# Altium schematic symbol library integratedCircuits.SchLib: 15 symbols
Pins are listed as number, name and electrical type; pins without a type are passive.

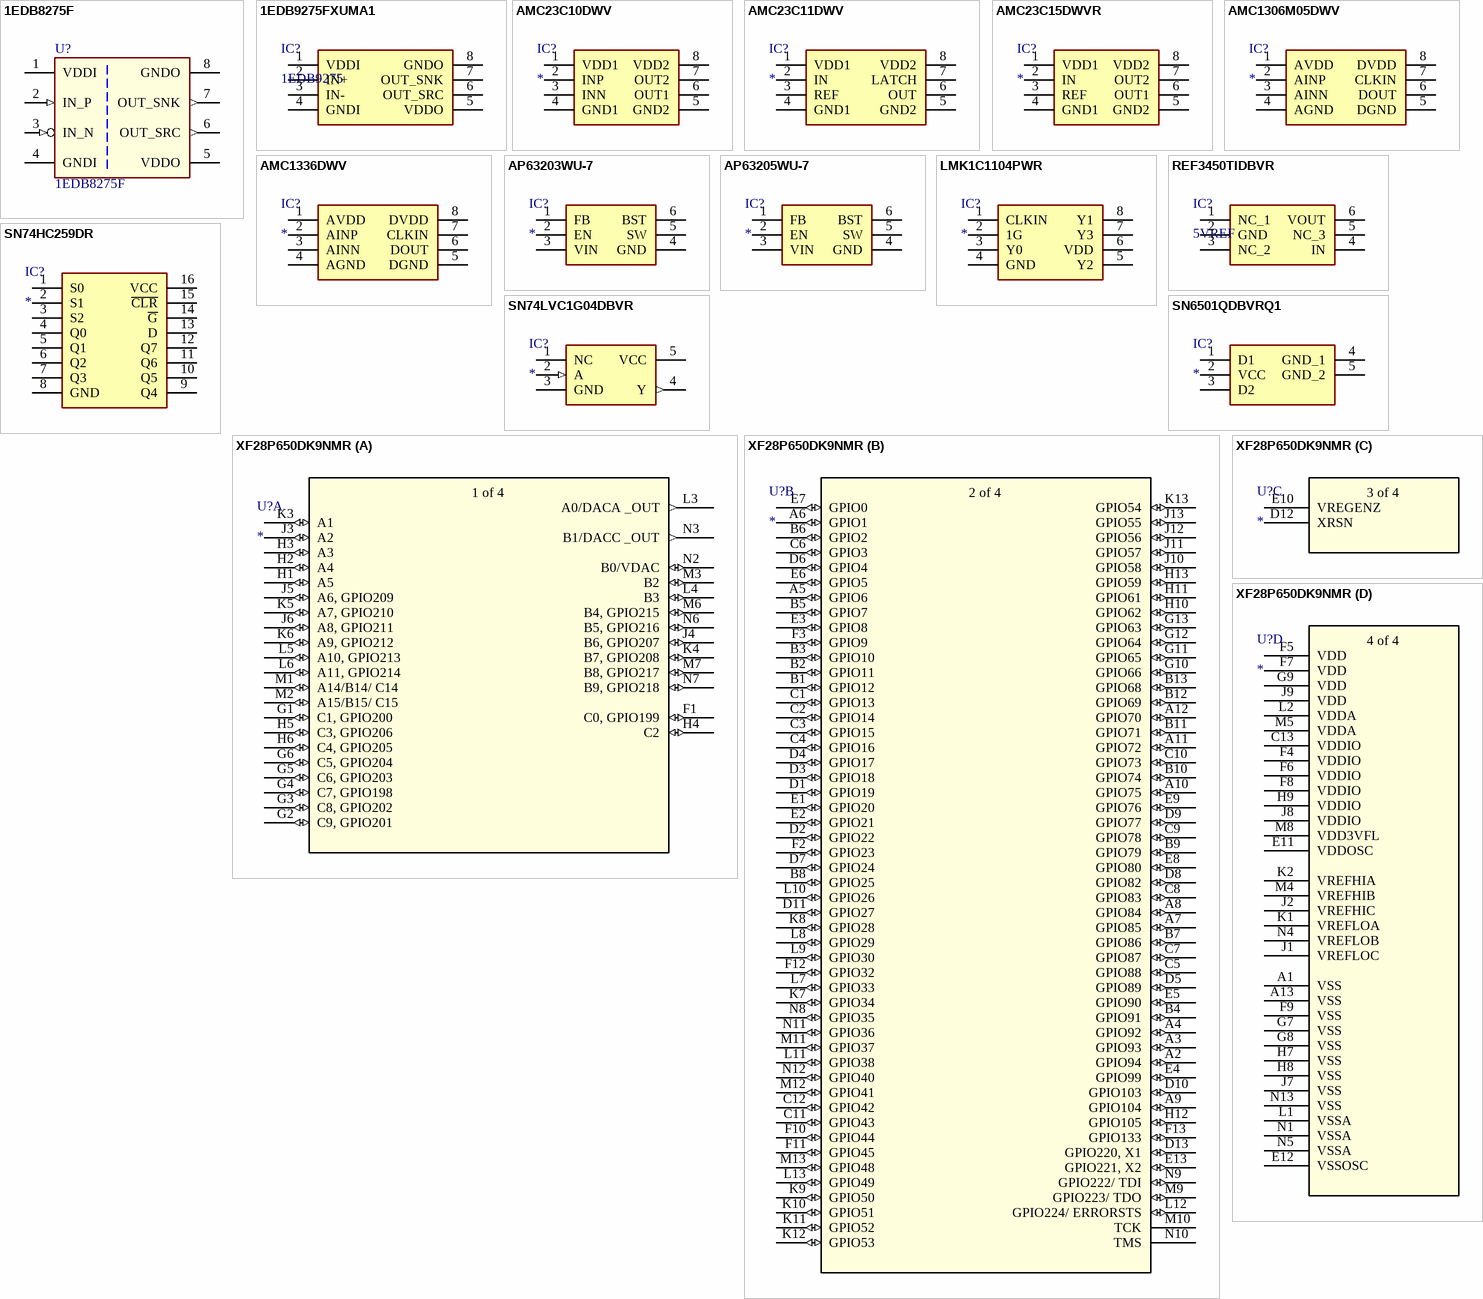
[diagram p0: symbols 1EDB8275F to XF28P650DK9NMR]

## 1EDB8275F
designator U?
Single-channel isolated gate-driver 8V UVLO High-Side; Symbol type: Single-channel isolated gate-driver; ComponentLink1Description: Datasheet; ComponentLink1URL: https://www.infineon.com/dgdl/Infineon-1EDB8275F-DataSheet-v02_02-EN.pdf?fileId=8ac78c8c7d0d8da4017d2c9fc1dd6c0b
footprint SOIC-8/127P600X175-8N-10 (SOIC,1.27mm pitch;8 pin,3.90mm W X 4.90mm L X 1.75mm H body)
pins: 1 VDDI (power) "Input-side supply voltage", 2 IN_P (in) "Non-inverting driver input", 3 IN_N (in) "Inverting driver input", 4 GNDI (power) "Input-side ground reference", 5 VDDO (power) "Output-side supply voltage", 6 OUT_SRC (out) "Driver output source", 7 OUT_SNK (out) "Driver output sink", 8 GNDO (power) "Output-side ground reference"

## 1EDB9275FXUMA1
designator IC?, comment 1EDB9275
Single-channel isolated gate-driver 15V UVLO High-Side; Manufacturer_Name: Infineon; Manufacturer_Part_Number: 1EDB9275FXUMA1; Datasheet Link: https://www.infineon.com/cms/en/product/power/gate-driver-ics/?; Height: 1.75mm; Mouser Part Number: 726-1EDB9275FXUMA1; Mouser Price/Stock: https://www.mouser.co.uk/ProductDetail/Infineon-Technologies/1EDB9275FXUMA1?qs=GBLSl2AkirvLL7yk%2Ft9JLQ%3D%3D; Arrow Part Number: 1EDB9275FXUMA1; Arrow Price/Stock: https://www.arrow.com/en/products/1edb9275fxuma1/infineon-technologies-ag?utm_currency=USD&region=nac
footprint SOIC127P600X175-8N
pins: 1 VDDI, 2 IN+, 3 IN-, 4 GNDI, 5 VDDO, 6 OUT_SRC, 7 OUT_SNK, 8 GNDO

## AMC23C10DWV
designator IC?
Fast-response, reinforced, isolated differential comparator with open-drain and push-pull outputs for ZCD; Manufacturer_Name: Texas Instruments; Manufacturer_Part_Number: AMC23C10DWV; Datasheet Link: https://www.ti.com/lit/ds/symlink/amc23c10.pdf?HQS=dis-mous-null-mousermode-dsf-pf-null-wwe&ts=1673274665261&ref_url=https%253A%252F%252Fwww.mouser.in%252F; Height: 2.8mm; Mouser Part Number: 595-AMC23C10DWV; Mouser Price/Stock: https://www.mouser.co.uk/ProductDetail/Texas-Instruments/AMC23C10DWV?qs=By6Nw2ByBD3PeP8lOrmzwA%3D%3D
footprint SOIC127P1150X280-8N
pins: 1 VDD1, 2 INP, 3 INN, 4 GND1, 5 GND2, 6 OUT1, 7 OUT2, 8 VDD2

## AMC23C11DWV
designator IC?
Fast-response, reinforced, isolated comparator with adjustable threshold and latch function for OVP; Manufacturer_Name: Texas Instruments; Manufacturer_Part_Number: AMC23C11DWV; Datasheet Link: https://www.ti.com/lit/ds/symlink/amc23c11.pdf; Height: 2.8mm; Mouser Part Number: 595-AMC23C11DWV; Mouser Price/Stock: https://www.mouser.co.uk/ProductDetail/Texas-Instruments/AMC23C11DWV?qs=By6Nw2ByBD0b%2FD7l%2FEQWqQ%3D%3D; Arrow Part Number: AMC23C11DWV; Arrow Price/Stock: https://www.arrow.com/en/products/amc23c11dwv/texas-instruments?utm_currency=USD&region=nac
footprint SOIC127P1150X280-8N
pins: 1 VDD1, 2 IN, 3 REF, 4 GND1, 5 GND2, 6 OUT, 7 LATCH, 8 VDD2

## AMC23C15DWVR
designator IC?
Dual, Fast Response, Reinforced Isolated Window Comparator With / Adjustable Threshold; Manufacturer_Name: Texas Instruments; Manufacturer_Part_Number: AMC23C15DWVR; Datasheet Link: https://www.ti.com/lit/gpn/amc23c15; Height: 2.8mm; Mouser Part Number: 595-AMC23C15DWVR; Mouser Price/Stock: https://www.mouser.com.tr/ProductDetail/Texas-Instruments/AMC23C15DWVR?qs=OcgtsXO%252B3gtYuV38385y1w%3D%3D; Arrow Part Number: AMC23C15DWVR; Arrow Price/Stock: https://www.arrow.com/en/products/amc23c15dwvr/texas-instruments?q=AMC23C15DWVR
footprint SOIC127P1150X280-8N
pins: 1 VDD1, 2 IN, 3 REF, 4 GND1, 5 GND2, 6 OUT1, 7 OUT2, 8 VDD2

## AMC1306M05DWV
designator IC?
High-Precision, ±50-mV Input, Reinforced Isolated Delta-Sigma Modulator / for Voltage Sensing Applications; Manufacturer_Name: Texas Instruments; Manufacturer_Part_Number: AMC1306M05DWV; Datasheet Link: http://www.ti.com/lit/gpn/amc1306m05; Height: 2.8mm; Mouser Part Number: 595-AMC1306M05DWV; Mouser Price/Stock: https://www.mouser.co.uk/ProductDetail/Texas-Instruments/AMC1306M05DWV?qs=HXFqYaX1Q2yF1KpRG9U4Vw%3D%3D; Arrow Part Number: AMC1306M05DWV; Arrow Price/Stock: https://www.arrow.com/en/products/amc1306m05dwv/texas-instruments?utm_currency=USD&region=nac
footprint SOIC127P1150X280-8N
pins: 1 AVDD, 2 AINP, 3 AINN, 4 AGND, 5 DGND, 6 DOUT, 7 CLKIN, 8 DVDD

## AMC1336DWV
designator IC?
High-Precision, 1V Input, Reinforced Isolated Delta-Sigma Modulator / for Voltage Sensing Applications; Manufacturer_Name: Texas Instruments; Manufacturer_Part_Number: AMC1336DWV; Datasheet Link: http://www.ti.com/general/docs/suppproductinfo.tsp?distId=10&gotoUrl=http%3A%2F%2Fwww.ti.com%2Flit%2Fgpn%2Famc1336; Height: 2.8mm; Mouser Part Number: 595-AMC1336DWV; Mouser Price/Stock: https://www.mouser.co.uk/ProductDetail/Texas-Instruments/AMC1336DWV?qs=XeJtXLiO41SGLchv4J%252BtxQ%3D%3D; Arrow Part Number: AMC1336DWV; Arrow Price/Stock: https://www.arrow.com/en/products/amc1336dwv/texas-instruments?utm_currency=USD&region=nac
footprint SOIC127P1150X280-8N
pins: 1 AVDD, 2 AINP, 3 AINN, 4 AGND, 5 DGND, 6 DOUT, 7 CLKIN, 8 DVDD

## AP63203WU-7
designator IC?
IC REG BUCK 3.3V 2A TSOT23-6; Manufacturer_Name: Diodes Incorporated; Manufacturer_Part_Number: AP63203WU-7; Datasheet Link: https://www.diodes.com/assets/Datasheets/AP63200-AP63201-AP63203-AP63205.pdf; Height: 1mm; Mouser Part Number: 621-AP63203WU-7; Mouser Price/Stock: https://www.mouser.co.uk/ProductDetail/Diodes-Incorporated/AP63203WU-7?qs=u16ybLDytRZ1JqxbuLkMJw%3D%3D; Arrow Part Number: AP63203WU-7; Arrow Price/Stock: https://www.arrow.com/en/products/ap63203wu-7/diodes-incorporated?utm_currency=USD&region=europe
footprint AP63203WU7
pins: 1 FB, 2 EN, 3 VIN, 4 GND, 5 SW, 6 BST

## AP63205WU-7
designator IC?
IC REG BUCK 5V 2A TSOT23-6; Manufacturer_Name: Diodes Incorporated; Manufacturer_Part_Number: AP63205WU-7; Datasheet Link: https://www.diodes.com//assets/Datasheets/AP63200-AP63201-AP63203-AP63205.pdf; Height: 1mm; Mouser Part Number: 621-AP63205WU-7; Mouser Price/Stock: https://www.mouser.co.uk/ProductDetail/Diodes-Incorporated/AP63205WU-7?qs=u16ybLDytRZtkj8PzdWCOw%3D%3D; Arrow Part Number: AP63205WU-7; Arrow Price/Stock: https://www.arrow.com/en/products/ap63205wu-7/diodes-incorporated?utm_currency=USD&region=europe
footprint AP63205WU7
pins: 1 FB, 2 EN, 3 VIN, 4 GND, 5 SW, 6 BST

## LMK1C1104PWR
designator IC?
IC CLK BUFFER 1:4 250MHZ 8TSSOP; Manufacturer_Name: Texas Instruments; Manufacturer_Part_Number: LMK1C1104PWR; Datasheet Link: https://www.ti.com/lit/gpn/LMK1C1104; Height: 1.2mm; Mouser Part Number: 595-LMK1C1104PWR; Mouser Price/Stock: https://www.mouser.co.uk/ProductDetail/Texas-Instruments/LMK1C1104PWR?qs=xZ%2FP%252Ba9zWqZKsBQFHYffew%3D%3D; Arrow Part Number: LMK1C1104PWR; Arrow Price/Stock: https://www.arrow.com/en/products/lmk1c1104pwr/texas-instruments?utm_currency=USD&region=nac
footprint SOP65P640X120-8N
pins: 1 CLKIN, 2 1G, 3 Y0, 4 GND, 5 Y2, 6 VDD, 7 Y3, 8 Y1

## REF3450TIDBVR
designator IC?, comment 5VREF
IC VREF SERIES 5V SOT23-6; Manufacturer_Name: Texas Instruments; Manufacturer_Part_Number: REF3450TIDBVR; Datasheet Link: https://www.ti.com/lit/ds/symlink/ref3450.pdf?ts=1625451766832&ref_url=https%253A%252F%252Fwww.ti.com%252Fsitesearch%252Fdocs%252Funiversalsearch.tsp%253FlangPref%253Den-US%2526searchTerm%253DREF3450TIDBVR%2526nr%253D7; Height: 1.45mm; Mouser Part Number: 595-REF3450TIDBVR; Mouser Price/Stock: https://www.mouser.co.uk/ProductDetail/Texas-Instruments/REF3450TIDBVR?qs=QNEnbhJQKvaJ9wk9nNLvXA%3D%3D; Arrow Part Number: REF3450TIDBVR; Arrow Price/Stock: https://www.arrow.com/en/products/ref3450tidbvr/texas-instruments?utm_currency=USD&region=nac
footprint SOT95P280X145-6N
pins: 1 NC_1, 2 GND, 3 NC_2, 4 IN, 5 NC_3, 6 VOUT

## SN74HC259DR
designator IC?
IC D-TYPE ADDR 1:8; Manufacturer_Name: Texas Instruments; Manufacturer_Part_Number: SN74HC259DR; Datasheet Link: https://datasheet.datasheetarchive.com/originals/distributors/Datasheets-SFU2/DSASFU100029158.pdf; Height: 1.75mm; Mouser Part Number: 595-SN74HC259DR; Mouser Price/Stock: https://www.mouser.co.uk/ProductDetail/Texas-Instruments/SN74HC259DR?qs=AgY10sKTvDLBsK%2FZqb34WQ%3D%3D; Arrow Part Number: SN74HC259DR; Arrow Price/Stock: https://www.arrow.com/en/products/sn74hc259dr/texas-instruments?utm_currency=USD&region=nac
footprint SOIC127P600X175-16N
pins: 1 S0, 2 S1, 3 S2, 4 Q0, 5 Q1, 6 Q2, 7 Q3, 8 GND, 9 Q4, 10 Q5, 11 Q6, 12 Q7, 13 D, 14 ~{G}, 15 ~{CLR}, 16 VCC

## SN74LVC1G04DBVR
designator IC?
IC INVERTER 1CH 1-INP SOT23-5; Manufacturer_Name: Texas Instruments; Manufacturer_Part_Number: SN74LVC1G04DBVR; Datasheet Link: http://www.ti.com/lit/gpn/sn74lvc1g04; Height: 1.45mm; Mouser Part Number: 595-SN74LVC1G04DBVR; Mouser Price/Stock: https://www.mouser.co.uk/ProductDetail/Texas-Instruments/SN74LVC1G04DBVR?qs=AMJt07B76utiScZvQx5a7w%3D%3D; Arrow Part Number: SN74LVC1G04DBVR; Arrow Price/Stock: https://www.arrow.com/en/products/sn74lvc1g04dbvr/texas-instruments?region=nac
footprint SOT95P280X145-5N
pins: 1 NC, 2 A (in), 3 GND (power), 4 Y (out), 5 VCC (power)

## SN6501QDBVRQ1
designator IC?
Transformer Driver PMIC SOT-23-5; Manufacturer_Name: Texas Instruments; Manufacturer_Part_Number: SN6501QDBVRQ1; Datasheet Link: http://www.ti.com/lit/gpn/sn6501-q1; Height: 1.45mm; Mouser Part Number: 595-SN6501QDBVRQ1; Mouser Price/Stock: https://www.mouser.co.uk/ProductDetail/Texas-Instruments/SN6501QDBVRQ1?qs=uSgeFhR2uNhePSB4wgv7mg%3D%3D; Arrow Part Number: SN6501QDBVRQ1; Arrow Price/Stock: https://www.arrow.com/en/products/sn6501qdbvrq1/texas-instruments?utm_currency=USD&region=nac
footprint SOT95P280X145-5N
pins: 1 D1, 2 VCC, 3 D2, 4 GND_1, 5 GND_2

## XF28P650DK9NMR
designator U?
No Description Available; Mfr_Name: Texas Instruments; Type: Embedded; RefDes: RefDes
footprint NFBGA169_NMR_TEX
part A pins: F1 C0, GPIO199 (io), G1 C1, GPIO200 (io), G2 C9, GPIO201 (io), G3 C8, GPIO202 (io), G4 C7, GPIO198 (io), G5 C6, GPIO203 (io), G6 C5, GPIO204 (io), H1 A5 (io), H2 A4 (io), H3 A3 (io), H4 C2 (io), H5 C3, GPIO206 (io), H6 C4, GPIO205 (io), J3 A2 (io), J4 B6, GPIO207 (io), J5 A6, GPIO209 (io), J6 A8, GPIO211 (io), K3 A1 (io), K4 B7, GPIO208 (io), K5 A7, GPIO210 (io), K6 A9, GPIO212 (io), L3 A0/DACA _OUT (out), L4 B3 (io), L5 A10, GPIO213 (io), L6 A11, GPIO214 (io), M1 A14/B14/ C14 (io), M2 A15/B15/ C15 (io), M3 B2 (io), M6 B4, GPIO215 (io), M7 B8, GPIO217 (io), N2 B0/VDAC (io), N3 B1/DACC _OUT (out), N6 B5, GPIO216 (io), N7 B9, GPIO218 (io)
part B pins: A2 GPIO94 (io), A3 GPIO93 (io), A4 GPIO92 (io), A5 GPIO6 (io), A6 GPIO1 (io), A7 GPIO85 (io), A8 GPIO84 (io), A9 GPIO104 (io), A10 GPIO75 (io), A11 GPIO72 (io), A12 GPIO70 (io), B1 GPIO12 (io), B2 GPIO11 (io), B3 GPIO10 (io), B4 GPIO91 (io), B5 GPIO7 (io), B6 GPIO2 (io), B7 GPIO86 (io), B8 GPIO25 (io), B9 GPIO79 (io), B10 GPIO74 (io), B11 GPIO71 (io), B12 GPIO69 (io), B13 GPIO68 (io), C1 GPIO13 (io), C2 GPIO14 (io), C3 GPIO15 (io), C4 GPIO16 (io), C5 GPIO88 (io), C6 GPIO3 (io), C7 GPIO87 (io), C8 GPIO83 (io), C9 GPIO78 (io), C10 GPIO73 (io), C11 GPIO43 (io), C12 GPIO42 (io), D1 GPIO19 (io), D2 GPIO22 (io), D3 GPIO18 (io), D4 GPIO17 (io), D5 GPIO89 (io), D6 GPIO4 (io), D7 GPIO24 (io), D8 GPIO82 (io), D9 GPIO77 (io), D10 GPIO103 (io), D11 GPIO27 (io), D13 GPIO220, X1 (io), E1 GPIO20 (io), E2 GPIO21 (io), E3 GPIO8 (io), E4 GPIO99 (io), E5 GPIO90 (io), E6 GPIO5 (io), E7 GPIO0 (io), E8 GPIO80 (io), E9 GPIO76 (io), E13 GPIO221, X2 (io), F2 GPIO23 (io), F3 GPIO9 (io), F10 GPIO44 (io), F11 GPIO45 (io), F12 GPIO32 (io), F13 GPIO133 (io), G10 GPIO66 (io), G11 GPIO65 (io), G12 GPIO64 (io), G13 GPIO63 (io), H10 GPIO62 (io), H11 GPIO61 (io), H12 GPIO105 (io), H13 GPIO59 (io), J10 GPIO58 (io), J11 GPIO57 (io), J12 GPIO56 (io), J13 GPIO55 (io), K7 GPIO34 (io), K8 GPIO28 (io), K9 GPIO50 (io), K10 GPIO51 (io), K11 GPIO52 (io), K12 GPIO53 (io), K13 GPIO54 (io), L7 GPIO33 (io), L8 GPIO29 (io), L9 GPIO30 (io), L10 GPIO26 (io), L11 GPIO38 (io), L12 GPIO224/ ERRORSTS (io), L13 GPIO49 (io), M9 GPIO223/ TDO (io), M10 TCK, M11 GPIO37 (io), M12 GPIO41 (io), M13 GPIO48 (io), N8 GPIO35 (io), N9 GPIO222/ TDI (io), N10 TMS, N11 GPIO36 (io), N12 GPIO40 (io)
part C pins: D12 XRSN, E10 VREGENZ
part D pins: A1 VSS (power), A13 VSS (power), C13 VDDIO (power), E11 VDDOSC (power), E12 VSSOSC (power), F4 VDDIO (power), F5 VDD (power), F6 VDDIO (power), F7 VDD (power), F8 VDDIO (power), F9 VSS (power), G7 VSS (power), G8 VSS (power), G9 VDD (power), H7 VSS (power), H8 VSS (power), H9 VDDIO (power), J1 VREFLOC (power), J2 VREFHIC (power), J7 VSS (power), J8 VDDIO (power), J9 VDD (power), K1 VREFLOA (power), K2 VREFHIA (power), L1 VSSA (power), L2 VDDA (power), M4 VREFHIB (power), M5 VDDA (power), M8 VDD3VFL (power), N1 VSSA (power), N4 VREFLOB (power), N5 VSSA (power), N13 VSS (power)
part A text: 1 of 4
part B text: 2 of 4
part C text: 3 of 4
part D text: 4 of 4